# Altium schematic symbol library MOLEX_2137160001.SchLib: 1 symbol
Pins are listed as number, name and electrical type; pins without a type are passive.

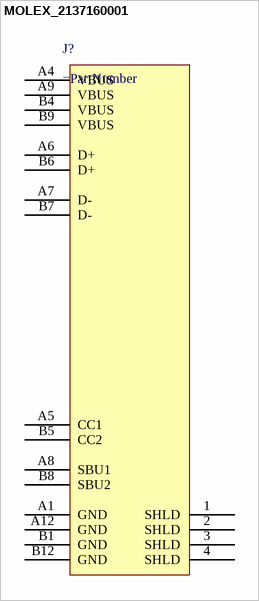
[diagram p0: symbol MOLEX_2137160001]

## MOLEX_2137160001
designator J?
pins: 1 SHLD, 2 SHLD, 3 SHLD, 4 SHLD, A1 GND, A4 VBUS, A5 CC1, A6 D+, A7 D-, A8 SBU1, A9 VBUS, A12 GND, B1 GND, B4 VBUS, B5 CC2, B6 D+, B7 D-, B8 SBU2, B9 VBUS, B12 GND